# Altium integrated library SSW-105-02-G-D.IntLib: 1 symbol
Pins are listed as number, name and electrical type; pins without a type are passive.

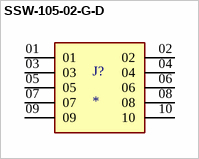
[diagram p0: symbol SSW-105-02-G-D]

## SSW-105-02-G-D
designator J?
MP: SSW-105-02-G-D; MF: Samtec Inc.; Package: None; Availability: Unavailable; Value: *; Price: None
footprint SAMTEC_SSW-105-02-G-D
pins: 01, 02, 03, 04, 05, 06, 07, 08, 09, 10